# Altium schematic symbol library kmilo17pet-TI_BattMgmt.SchLib: 950 symbols (part 46 of 60)
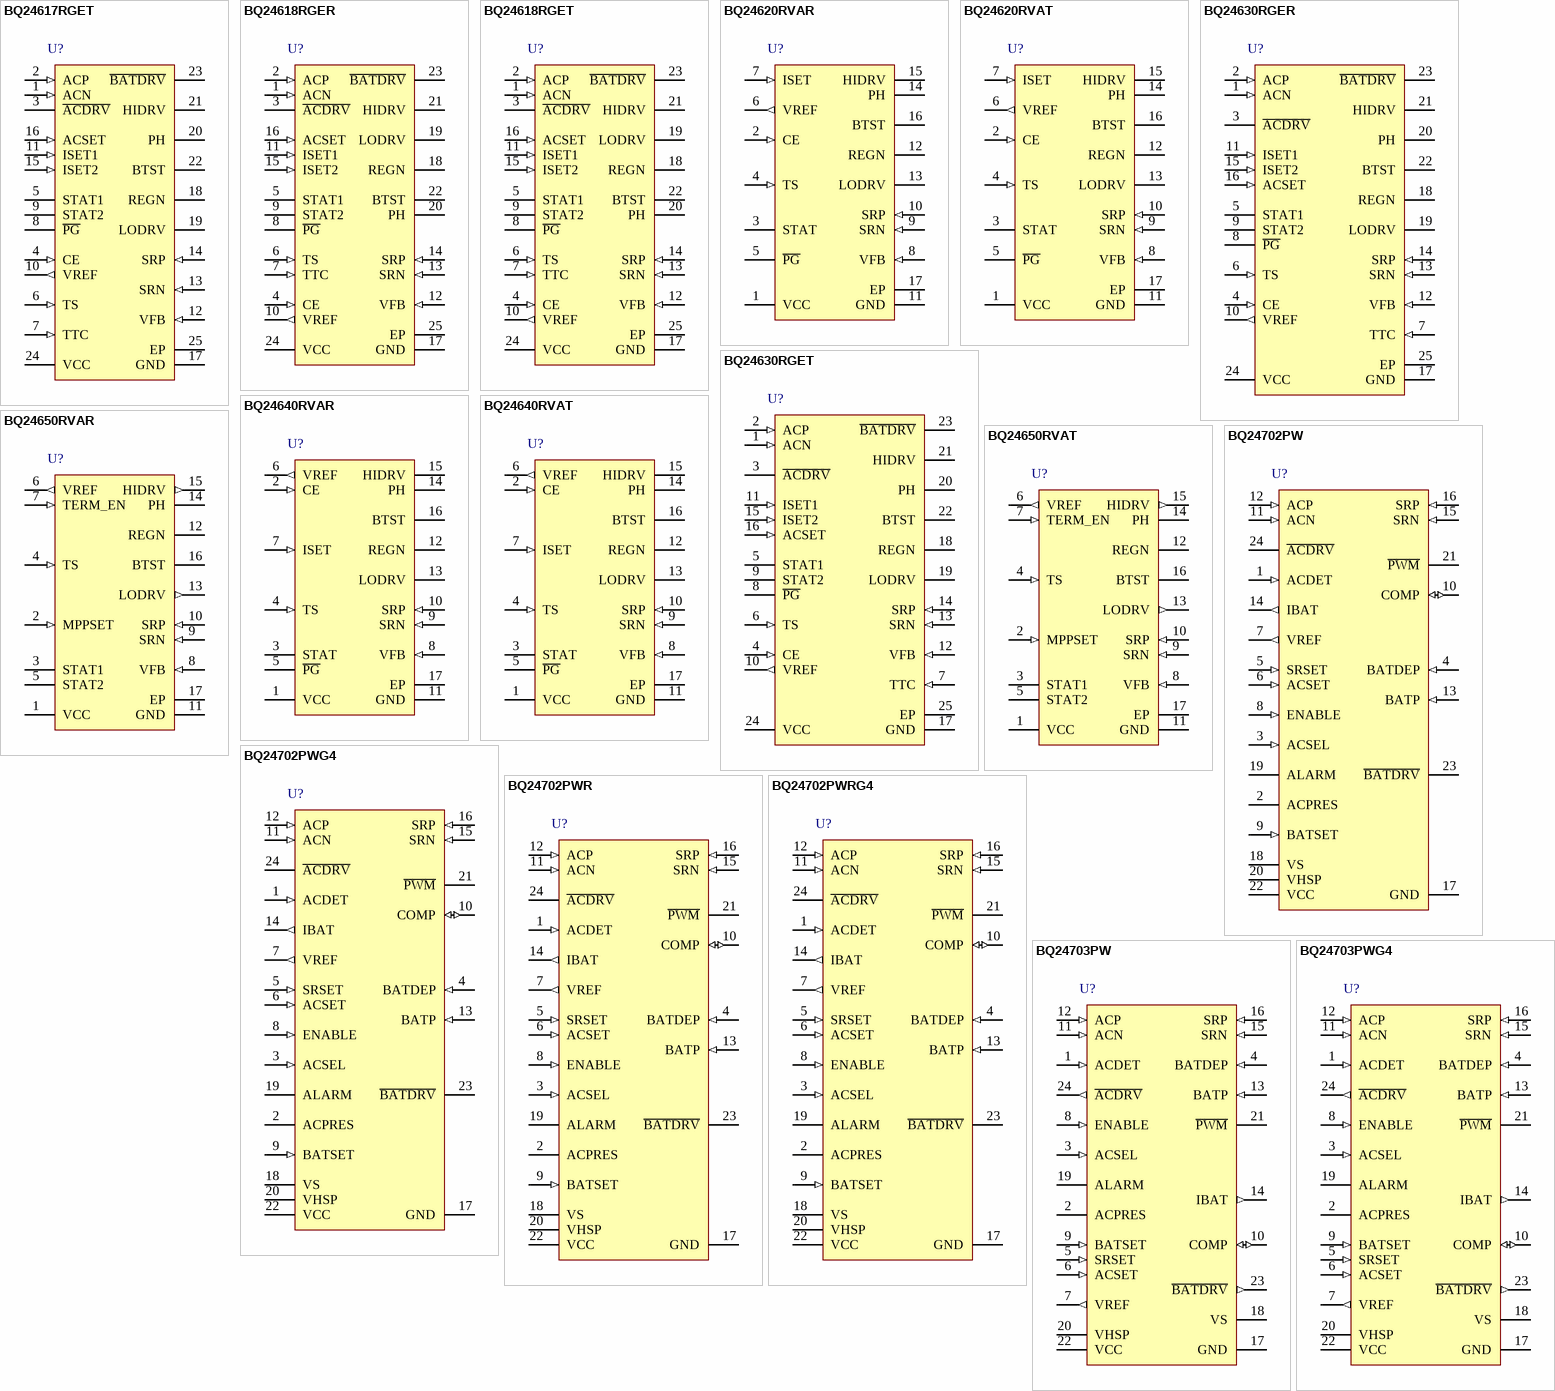
[diagram p79: symbols BQ24617RGET to BQ24703PWG4]

## BQ24620RVAR
designator U?
28 V Synchronous Switch-Mode Charge Management IC for Lithium Phosphate Batteries, 5 V, -40 to 85 degC, 16-pin VQFN (RVA), Green (RoHS & no Sb/Br); PartNumber: BQ24620RVAR; Manufacturer: Texas Instruments; Lead Acid: N; SubFamily: Battery Charge Management; Vin(Min)(V): 5; DatasheetVersion: SLUS893A; PackageVersion: revC, May-2011; PackageReference: RVA16-2140X2140TP; PackageDescription: 16-Pin Plastic Quad Flatpack No-Lead, 3.5 x 3.5 mm Body, 0.5 mm Pitch, Exposed Pad; Supplier 1: Digi-Key; Supplier Part Number 1: BQ24620RVAR-ND; Supplier Part Number 3: 595-BQ24620RVAR; Eco-Plan: Green (RoHS & no Sb/Br); Li-Ion: N; Li-Polymer: N; NiCd: N; NiMH: N; Over Voltage Protection: N; Mounting Technology: Surface Mount; ComponentLink1Description: Datasheet; ComponentLink1URL: http://www.ti.com/general/docs/lit/getliterature.tsp?genericPartNumber=BQ24620&fileType=pdf
footprint RVA16-2140X2140TP (QFN, 16-Leads, Body 3.5x3.5mm, Pitch 0.5mm, Thermal Pad 2.14x2.14mm, TI Recommended)
pins: 1 VCC (power) "IC power positive supply. Connect through a 10-ohm  resistor to the common-source (diode-OR) point: source of high-side P-channel MOSFET and source of reverse-blocking power P-channel MOSFET. Or connect through a 10-ohm (See Datasheet)", 2 CE (in) "Charge-enable active-HIGH logic input. HI enables charge. LO disables charge. It has an internal 1-M ohm  pulldown resistor.", 3 STAT (oc) "Open-drain charge status pin to indicate various charger operations (See Table 3)", 4 TS (in) "Temperature qualification voltage input for battery pack negative-temperature-coefficient thermistor. Program the hot and cold temperature window with a resistor divider from VREF to TS to GND.", 5 ~{PG} (oc) "Open-drain power-good status output. The transistor turns on when a valid VCC is detected. It is turned off in the sleep mode. P\G\  can be used to drive an LED or communicate with a host processor. It can be used to drive (See Datasheet)", 6 VREF (out) "3.3-V regulated voltage output. Place a 1-uF ceramic capacitor from VREF to the GND pin close to the IC. This voltage could be used for programming of voltage and current regulation and for programming the TS threshold", 7 ISET (in) "Charge current set input. The voltage of ISET pin programs the charge current regulation, precharge-current and termination-current set-point.", 8 VFB (in) "Output-voltage analog feedback adjustment. Connect the output of a resistive voltage divider from the battery terminals to this node to adjust the output battery regulation voltage.", 9 SRN (in) "Charge current sense resistor, negative input. A 0.1-uF ceramic capacitor is placed from SRN to SRP to provide differential-mode filtering. An optional 0.1-uF ceramic capacitor is placed from the SRN pin to GND for (See Datasheet)", 10 SRP (in) "Charge-current sense resistor, positive input. A 0.1-uF ceramic capacitor is placed from SRN to SRP to provide differential-mode filtering. A 0.1-uF ceramic capacitor is placed from SRP pin to GND for common-mode filtering.", 11 GND (power) "Low-current sensitive analog/digital ground. On PCB layout, connect with thermal pad underneath the IC.", 12 REGN (power) "PWM low-side driver positive 6-V supply output. Connect a 1-uF ceramic capacitor from REGN to the PGND pin, close to the IC. Use for low-side driver and high-side driver bootstrap voltage by connecting a small-signal (See Datasheet)", 13 LODRV "PWM low-side driver output. Connect to the gate of the low-side power MOSFET with a short trace", 14 PH (power) "PWM high-side driver negative supply. Connect to the phase-switching node (junction of the low-side power MOSFET drain, high-side power MOSFET source, and output inductor).", 15 HIDRV "PWM high-side driver output. Connect to the gate of the high-side power MOSFET with a short trace", 16 BTST (power) "PWM high-side driver negative supply. Connect the 0.1-uF bootstrap capacitor from PH to BTST, and a bootstrap Schottky diode from REGN to BTST.", 17 EP (power) "Exposed pad beneath the IC. Always solder the thermal pad to the board, and have vias on the thermal-pad plane star-connecting to GND and ground plane for high-current power converter. It also serves as a thermal pad to (See Datasheet)"

## BQ24620RVAT
designator U?
28 V Synchronous Switch-Mode Charge Management IC for Lithium Phosphate Batteries, 5 V, -40 to 85 degC, 16-pin VQFN (RVA), Green (RoHS & no Sb/Br); PartNumber: BQ24620RVAT; Manufacturer: Texas Instruments; Lead Acid: N; SubFamily: Battery Charge Management; Vin(Min)(V): 5; DatasheetVersion: SLUS893A; PackageVersion: revC, May-2011; PackageReference: RVA16-2140X2140TP; PackageDescription: 16-Pin Plastic Quad Flatpack No-Lead, 3.5 x 3.5 mm Body, 0.5 mm Pitch, Exposed Pad; Supplier 1: Digi-Key; Supplier Part Number 1: 296-27209-2-ND; Supplier Part Number 3: 296-27209-6-ND; Eco-Plan: Green (RoHS & no Sb/Br); Li-Ion: N; Li-Polymer: N; NiCd: N; NiMH: N; Over Voltage Protection: N; Mounting Technology: Surface Mount; ComponentLink1Description: Datasheet; ComponentLink1URL: http://www.ti.com/general/docs/lit/getliterature.tsp?genericPartNumber=BQ24620&fileType=pdf
footprint RVA16-2140X2140TP (QFN, 16-Leads, Body 3.5x3.5mm, Pitch 0.5mm, Thermal Pad 2.14x2.14mm, TI Recommended)
pins: 1 VCC (power) "IC power positive supply. Connect through a 10-ohm  resistor to the common-source (diode-OR) point: source of high-side P-channel MOSFET and source of reverse-blocking power P-channel MOSFET. Or connect through a 10-ohm (See Datasheet)", 2 CE (in) "Charge-enable active-HIGH logic input. HI enables charge. LO disables charge. It has an internal 1-M ohm  pulldown resistor.", 3 STAT (oc) "Open-drain charge status pin to indicate various charger operations (See Table 3)", 4 TS (in) "Temperature qualification voltage input for battery pack negative-temperature-coefficient thermistor. Program the hot and cold temperature window with a resistor divider from VREF to TS to GND.", 5 ~{PG} (oc) "Open-drain power-good status output. The transistor turns on when a valid VCC is detected. It is turned off in the sleep mode. P\G\  can be used to drive an LED or communicate with a host processor. It can be used to drive (See Datasheet)", 6 VREF (out) "3.3-V regulated voltage output. Place a 1-uF ceramic capacitor from VREF to the GND pin close to the IC. This voltage could be used for programming of voltage and current regulation and for programming the TS threshold", 7 ISET (in) "Charge current set input. The voltage of ISET pin programs the charge current regulation, precharge-current and termination-current set-point.", 8 VFB (in) "Output-voltage analog feedback adjustment. Connect the output of a resistive voltage divider from the battery terminals to this node to adjust the output battery regulation voltage.", 9 SRN (in) "Charge current sense resistor, negative input. A 0.1-uF ceramic capacitor is placed from SRN to SRP to provide differential-mode filtering. An optional 0.1-uF ceramic capacitor is placed from the SRN pin to GND for (See Datasheet)", 10 SRP (in) "Charge-current sense resistor, positive input. A 0.1-uF ceramic capacitor is placed from SRN to SRP to provide differential-mode filtering. A 0.1-uF ceramic capacitor is placed from SRP pin to GND for common-mode filtering.", 11 GND (power) "Low-current sensitive analog/digital ground. On PCB layout, connect with thermal pad underneath the IC.", 12 REGN (power) "PWM low-side driver positive 6-V supply output. Connect a 1-uF ceramic capacitor from REGN to the PGND pin, close to the IC. Use for low-side driver and high-side driver bootstrap voltage by connecting a small-signal (See Datasheet)", 13 LODRV "PWM low-side driver output. Connect to the gate of the low-side power MOSFET with a short trace", 14 PH (power) "PWM high-side driver negative supply. Connect to the phase-switching node (junction of the low-side power MOSFET drain, high-side power MOSFET source, and output inductor).", 15 HIDRV "PWM high-side driver output. Connect to the gate of the high-side power MOSFET with a short trace", 16 BTST (power) "PWM high-side driver negative supply. Connect the 0.1-uF bootstrap capacitor from PH to BTST, and a bootstrap Schottky diode from REGN to BTST.", 17 EP (power) "Exposed pad beneath the IC. Always solder the thermal pad to the board, and have vias on the thermal-pad plane star-connecting to GND and ground plane for high-current power converter. It also serves as a thermal pad to (See Datasheet)"

## BQ24630RGER
designator U?
Stand-Alone Synchronous Switch-Mode Lithium Phosphate Battery Charger with System Power Selector, 5 V, -40 to 85 degC, 24-pin VQFN (RGE), Green (RoHS & no Sb/Br); PartNumber: BQ24630RGER; Manufacturer: Texas Instruments; Lead Acid: N; SubFamily: Battery Charge Management; Vin(Min)(V): 5; DatasheetVersion: SLUS894A; PackageVersion: revG, Jul-2011; PackageReference: RGE24-2450X2450TP; PackageDescription: 24-Pin Plastic Quad Flatpack No-Lead, 4 x 4 mm Body, 0.5 mm Pitch; Supplier 1: Digi-Key; Supplier Part Number 1: BQ24630RGER-ND; Supplier Part Number 3: 595-BQ24630RGER; Eco-Plan: Green (RoHS & no Sb/Br); Li-Ion: N; Li-Polymer: N; NiCd: N; NiMH: N; Over Voltage Protection: N; Mounting Technology: Surface Mount; Code_JEDEC: MO-220; ComponentLink1Description: Datasheet; ComponentLink1URL: http://www.ti.com/general/docs/lit/getliterature.tsp?genericPartNumber=BQ24630&fileType=pdf
footprint RGE24-2450X2450TP (QFN, 24-Leads, Body 4x4mm, Pitch 0.5mm, Thermal Pad 2.45x2.45mm, TI Recommended)
pins: 1 ACN (in) "Adapter current-sense resistor, negative input. A 0.1-uF ceramic capacitor is placed from ACN to ACP to provide differential-mode filtering. An optional 0.1-uF ceramic capacitor is placed from the ACN pin to GND for (See Datasheet)", 2 ACP (in) "Adapter current-sense resistor, positive input. A 0.1-uF ceramic capacitor is placed from ACN to ACP to provide differential-mode filtering. A 0.1-uF ceramic capacitor is placed from the ACP pin to GND for common-mode (See Datasheet)", 3 ~{ACDRV} "AC adapter to system MOSFET driver output. Connect through a 1-kohm resistor to the gate of the ACFET P-channel power MOSFET and the reverse conduction blocking P-channel power MOSFET. The internal gate drive is (See Datasheet)", 4 CE (in) "Charge-enable active-HIGH logic input. HI enables charge. LO disables charge. It has an internal 1-Mohm pulldown resistor.", 5 STAT1 (oc) "Open-drain charge-status pin to indicate various charger operations", 6 TS (in) "Temperature qualification voltage input for battery-pack negative-temperature-coefficient thermistor. Program the hot and cold temperature window with a resistor divider from VREF to TS to GND.", 7 TTC (in) "SafetyTimer and termination control. Connect a capacitor from this node to GND to set the timer. When this input is LOW, the timer and termination are disabled. When this input is HIGH, the timer is disabled but termination (See Datasheet)", 8 ~{PG} (oc) "Open-drain power-good status output. Active-LOW when IC has a valid VCC (not in UVLO or ACOV or SLEEP mode). Active-HIGH when IC has an invalid VCC. P\G\  can be used to drive an LED or communicate with a host processor", 9 STAT2 (oc) "Open-drain charge-status pin to indicate various charger operations", 10 VREF (out) "3.3-V regulated voltage output. Place a 1-uF ceramic capacitor from VREF to GND pin close to the IC. This voltage could be used for programming of voltage and current regulation and for programming the TS threshold.", 11 ISET1 (in) "Fast-charge current-set input. The voltage on the ISET1 pin programs the fast-charge current-regulation set point.", 12 VFB (in) "Output-voltage analog-feedback adjustment. Connect the output of a resistive voltage divider from the battery terminals to this node to adjust the output battery-regulation voltage.", 13 SRN (in) "Charge-current sense resistor, negative input. A 0.1-uF ceramic capacitor is placed from SRN to SRP to provide differential-mode filtering. An optional 0.1-uF ceramic capacitor is placed from the SRN pin to GND for (See Datasheet)", 14 SRP (in) "Charge-current sense resistor, positive input. A 0.1-uF ceramic capacitor is placed from SRN to SRP to provide differential-mode filtering. A 0.1-uF ceramic capacitor is placed from the SRP pin to GND for common-mode (See Datasheet)", 15 ISET2 (in) "Pre-charge and termination current-set input. The voltage on the ISET2 pin programs the pre-charge current regulation set-point and termination-current trigger point.", 16 ACSET (in) "Adapter-current set input. The voltage on the ACSET pin programs the input-current regulation set-point during dynamic power management (DPM).", 17 GND (power) "Low-current sensitive analog/digital ground. On PCB layout, connect with thermal pad underneath the IC.", 18 REGN (power) "PWM low-side driver positive 6-V supply output. Connect a 1-uF ceramic capacitor from REGN to the GND pin, close to the IC. Use for low-side driver and high-side driver bootstrap voltage by connecting a small-signal Schottky (See Datasheet)", 19 LODRV "PWM low-side driver output. Connect to the gate of the low-side power MOSFET with a short trace.", 20 PH (power) "PWM high-side driver negative supply. Connect to the phase-switching node (junction of the low-side power MOSFET drain, high-side power MOSFET source, and output inductor).", 21 HIDRV "PWM high-side driver output. Connect to the gate of the high-side power MOSFET with a short trace.", 22 BTST (power) "PWM high-side driver positive supply. Connect to the phase-switching node (junction of the low-side power MOSFET drain, high-side power MOSFET source, and output inductor). Connect the 0.1-uF bootstrap capacitor from PH to (See Datasheet)", 23 ~{BATDRV} "Battery-to-system MOSFET driver output. Gate drive for the battery-to-system load BAT PMOS power FET to isolate the system from the battery to prevent current flow from the system to the battery, while allowing a (See Datasheet)", 24 VCC (power) "IC power positive supply. Connect through a 10-ohm to the common-source (diode-OR) point: source of high-side P-channel MOSFET and source of reverse-blocking power P-channel MOSFET. Place a 1-µF ceramic capacitor from VCC to (See Datasheet)", 25 EP (power) "Exposed pad beneath the IC. Always solder the thermal pad to the board, and have vias on the thermal-pad plane star-connecting to GND and to the ground plane for a high-current power converter. It also serves as a thermal (See Datasheet)"

## BQ24630RGET
designator U?
Stand-Alone Synchronous Switch-Mode Lithium Phosphate Battery Charger with System Power Selector, 5 V, -40 to 85 degC, 24-pin VQFN (RGE), Green (RoHS & no Sb/Br); PartNumber: BQ24630RGET; Manufacturer: Texas Instruments; Lead Acid: N; SubFamily: Battery Charge Management; Vin(Min)(V): 5; DatasheetVersion: SLUS894A; PackageVersion: revG, Jul-2011; PackageReference: RGE24-2450X2450TP; PackageDescription: 24-Pin Plastic Quad Flatpack No-Lead, 4 x 4 mm Body, 0.5 mm Pitch; Supplier 1: Digi-Key; Supplier Part Number 1: 296-25761-2-ND; Supplier Part Number 3: 296-25761-6-ND; Eco-Plan: Green (RoHS & no Sb/Br); Li-Ion: N; Li-Polymer: N; NiCd: N; NiMH: N; Over Voltage Protection: N; Mounting Technology: Surface Mount; Code_JEDEC: MO-220; ComponentLink1Description: Datasheet; ComponentLink1URL: http://www.ti.com/general/docs/lit/getliterature.tsp?genericPartNumber=BQ24630&fileType=pdf
footprint RGE24-2450X2450TP (QFN, 24-Leads, Body 4x4mm, Pitch 0.5mm, Thermal Pad 2.45x2.45mm, TI Recommended)
pins: 1 ACN (in) "Adapter current-sense resistor, negative input. A 0.1-uF ceramic capacitor is placed from ACN to ACP to provide differential-mode filtering. An optional 0.1-uF ceramic capacitor is placed from the ACN pin to GND for (See Datasheet)", 2 ACP (in) "Adapter current-sense resistor, positive input. A 0.1-uF ceramic capacitor is placed from ACN to ACP to provide differential-mode filtering. A 0.1-uF ceramic capacitor is placed from the ACP pin to GND for common-mode (See Datasheet)", 3 ~{ACDRV} "AC adapter to system MOSFET driver output. Connect through a 1-kohm resistor to the gate of the ACFET P-channel power MOSFET and the reverse conduction blocking P-channel power MOSFET. The internal gate drive is (See Datasheet)", 4 CE (in) "Charge-enable active-HIGH logic input. HI enables charge. LO disables charge. It has an internal 1-Mohm pulldown resistor.", 5 STAT1 (oc) "Open-drain charge-status pin to indicate various charger operations", 6 TS (in) "Temperature qualification voltage input for battery-pack negative-temperature-coefficient thermistor. Program the hot and cold temperature window with a resistor divider from VREF to TS to GND.", 7 TTC (in) "SafetyTimer and termination control. Connect a capacitor from this node to GND to set the timer. When this input is LOW, the timer and termination are disabled. When this input is HIGH, the timer is disabled but termination (See Datasheet)", 8 ~{PG} (oc) "Open-drain power-good status output. Active-LOW when IC has a valid VCC (not in UVLO or ACOV or SLEEP mode). Active-HIGH when IC has an invalid VCC. P\G\  can be used to drive an LED or communicate with a host processor", 9 STAT2 (oc) "Open-drain charge-status pin to indicate various charger operations", 10 VREF (out) "3.3-V regulated voltage output. Place a 1-uF ceramic capacitor from VREF to GND pin close to the IC. This voltage could be used for programming of voltage and current regulation and for programming the TS threshold.", 11 ISET1 (in) "Fast-charge current-set input. The voltage on the ISET1 pin programs the fast-charge current-regulation set point.", 12 VFB (in) "Output-voltage analog-feedback adjustment. Connect the output of a resistive voltage divider from the battery terminals to this node to adjust the output battery-regulation voltage.", 13 SRN (in) "Charge-current sense resistor, negative input. A 0.1-uF ceramic capacitor is placed from SRN to SRP to provide differential-mode filtering. An optional 0.1-uF ceramic capacitor is placed from the SRN pin to GND for (See Datasheet)", 14 SRP (in) "Charge-current sense resistor, positive input. A 0.1-uF ceramic capacitor is placed from SRN to SRP to provide differential-mode filtering. A 0.1-uF ceramic capacitor is placed from the SRP pin to GND for common-mode (See Datasheet)", 15 ISET2 (in) "Pre-charge and termination current-set input. The voltage on the ISET2 pin programs the pre-charge current regulation set-point and termination-current trigger point.", 16 ACSET (in) "Adapter-current set input. The voltage on the ACSET pin programs the input-current regulation set-point during dynamic power management (DPM).", 17 GND (power) "Low-current sensitive analog/digital ground. On PCB layout, connect with thermal pad underneath the IC.", 18 REGN (power) "PWM low-side driver positive 6-V supply output. Connect a 1-uF ceramic capacitor from REGN to the GND pin, close to the IC. Use for low-side driver and high-side driver bootstrap voltage by connecting a small-signal Schottky (See Datasheet)", 19 LODRV "PWM low-side driver output. Connect to the gate of the low-side power MOSFET with a short trace.", 20 PH (power) "PWM high-side driver negative supply. Connect to the phase-switching node (junction of the low-side power MOSFET drain, high-side power MOSFET source, and output inductor).", 21 HIDRV "PWM high-side driver output. Connect to the gate of the high-side power MOSFET with a short trace.", 22 BTST (power) "PWM high-side driver positive supply. Connect to the phase-switching node (junction of the low-side power MOSFET drain, high-side power MOSFET source, and output inductor). Connect the 0.1-uF bootstrap capacitor from PH to (See Datasheet)", 23 ~{BATDRV} "Battery-to-system MOSFET driver output. Gate drive for the battery-to-system load BAT PMOS power FET to isolate the system from the battery to prevent current flow from the system to the battery, while allowing a (See Datasheet)", 24 VCC (power) "IC power positive supply. Connect through a 10-ohm to the common-source (diode-OR) point: source of high-side P-channel MOSFET and source of reverse-blocking power P-channel MOSFET. Place a 1-µF ceramic capacitor from VCC to (See Datasheet)", 25 EP (power) "Exposed pad beneath the IC. Always solder the thermal pad to the board, and have vias on the thermal-pad plane star-connecting to GND and to the ground plane for a high-current power converter. It also serves as a thermal (See Datasheet)"

## BQ24640RVAR
designator U?
High Efficiency Synchronous Switch-Mode Battery Charge Controller for Super Capacitor, 5 V, -40 to 85 degC, 16-pin VQFN (RVA), Green (RoHS & no Sb/Br); PartNumber: BQ24640RVAR; Manufacturer: Texas Instruments; Lead Acid: N; SubFamily: Battery Charge Management; Vin(Min)(V): 5; DatasheetVersion: SLUSA44; PackageVersion: revC, May-2011; PackageReference: RVA16-2140X2140TP; PackageDescription: 16-Pin Plastic Quad Flatpack No-Lead, 3.5 x 3.5 mm Body, 0.5 mm Pitch, Exposed Pad; Supplier 1: Digi-Key; Supplier Part Number 1: 296-27258-2-ND; Supplier Part Number 3: 296-27258-6-ND; Eco-Plan: Green (RoHS & no Sb/Br); Li-Ion: N; Li-Polymer: N; NiCd: N; NiMH: N; Over Voltage Protection: N; Mounting Technology: Surface Mount; ComponentLink1Description: Datasheet; ComponentLink1URL: http://www.ti.com/general/docs/lit/getliterature.tsp?genericPartNumber=BQ24640&fileType=pdf
footprint RVA16-2140X2140TP (QFN, 16-Leads, Body 3.5x3.5mm, Pitch 0.5mm, Thermal Pad 2.14x2.14mm, TI Recommended)
pins: 1 VCC (power) "IC power positive supply. Connect through a 10-ohm resistor to the cathode of input diode. Place a 1-uF ceramic capacitor from VCC to GND and place it as close as possible to IC to filter out the noise.", 2 CE (in) "Charge enable, active HIGH logic input. HI enables charge, and LO disables charge. Connect to pull-up rail with 10-kohm resistor. It has an internal 1-Mohm pull-down resistor.", 3 STAT (oc) "Open drain charge status output to indicate various charger operation. Connect to the pull-up rail through the LED and 10-kohm. (See Table 3)", 4 TS (in) "Temperature qualification voltage input for negative temperature coefficient thermistor. Program the hot and cold temperature window with a resistor divider from VREF to TS to GND. Recommend SEMITEC 103AT-2 10-kohm (See Datasheet)", 5 ~{PG} (oc) "Open drain active-low adapter status output. Connect to pull-up rail through LED and 10 kohm resistor. The LED turns on when a valid is detected, and off in the sleep mode.", 6 VREF (out) "3.3V reference voltage output. Place a 1-uF ceramic capacitor from VREF to GND pin close to the IC. This voltage could be used for programming charge current regulation on ISET and for thermal threshold on TS. It can be used (See Datasheet)", 7 ISET (in) "Charge current set point. The voltage is set through a voltage divider from VREF to ISET and to GND.ICHG=VISET/(20*RSR)", 8 VFB (in) "Charge voltage analog feedback adjustment. Connect a resistor divider from output to VFB to GND to adjust the output voltage. The internal regulation limit is 2.1V.", 9 SRN (in) "Charge current sense resistor, negative input. A 0.1-uF ceramic capacitor is placed from SRN to SRP to provide differential-mode filtering. An optional 0.1-uF ceramic capacitor is placed from SRN pin to GND for common-mode (See Datasheet)", 10 SRP (in) "Charge current sense resistor, positive input. A 0.1-uF ceramic capacitor is placed from SRN to SRP to provide differential-mode filtering. A 0.1-uF ceramic capacitor is placed from SRP pin to GND for common-mode filtering.", 11 GND (power) "Low-current sensitive analog/digital ground. On PCB layout, connect with PowerPad underneath the IC", 12 REGN (power) "PWM low side driver positive 6V supply output. Connect a 1-uF ceramic capacitor from REGN to GND pin close to the IC. Use for low side driver and high-side driver bootstrap voltage by small signal Schottky diode from REGN to (See Datasheet)", 13 LODRV "PWM low side driver output. Connect to the gate of the low side N-channel power MOSFET with a short trace.", 14 PH (power) "Switching node, charge current output inductor connection. Connect the 0.1-uF bootstrap capacitor from PH to BTST.", 15 HIDRV "PWM high side driver output. Connect to the gate of the high side N-channel power MOSFET with a short trace.", 16 BTST (power) "PWM high side driver positive supply. Connect the 0.1-uF bootstrap capacitor from PH to BTST.", 17 EP (power) "Exposed pad beneath the IC. Always solder Power Pad to the board, and have vias on the Power Pad plane star-connecting to GND and ground plane for high-current power converter. It also serves as a thermal pad to dissipate (See Datasheet)"

## BQ24640RVAT
designator U?
High Efficiency Synchronous Switch-Mode Battery Charge Controller for Super Capacitor, 5 V, -40 to 85 degC, 16-pin VQFN (RVA), Green (RoHS & no Sb/Br); PartNumber: BQ24640RVAT; Manufacturer: Texas Instruments; Lead Acid: N; SubFamily: Battery Charge Management; Vin(Min)(V): 5; DatasheetVersion: SLUSA44; PackageVersion: revC, May-2011; PackageReference: RVA16-2140X2140TP; PackageDescription: 16-Pin Plastic Quad Flatpack No-Lead, 3.5 x 3.5 mm Body, 0.5 mm Pitch, Exposed Pad; Supplier 1: Digi-Key; Supplier Part Number 1: 296-32032-2-ND; Supplier Part Number 3: 296-32032-6-ND; Eco-Plan: Green (RoHS & no Sb/Br); Li-Ion: N; Li-Polymer: N; NiCd: N; NiMH: N; Over Voltage Protection: N; Mounting Technology: Surface Mount; ComponentLink1Description: Datasheet; ComponentLink1URL: http://www.ti.com/general/docs/lit/getliterature.tsp?genericPartNumber=BQ24640&fileType=pdf
footprint RVA16-2140X2140TP (QFN, 16-Leads, Body 3.5x3.5mm, Pitch 0.5mm, Thermal Pad 2.14x2.14mm, TI Recommended)
pins: 1 VCC (power) "IC power positive supply. Connect through a 10-ohm resistor to the cathode of input diode. Place a 1-uF ceramic capacitor from VCC to GND and place it as close as possible to IC to filter out the noise.", 2 CE (in) "Charge enable, active HIGH logic input. HI enables charge, and LO disables charge. Connect to pull-up rail with 10-kohm resistor. It has an internal 1-Mohm pull-down resistor.", 3 STAT (oc) "Open drain charge status output to indicate various charger operation. Connect to the pull-up rail through the LED and 10-kohm. (See Table 3)", 4 TS (in) "Temperature qualification voltage input for negative temperature coefficient thermistor. Program the hot and cold temperature window with a resistor divider from VREF to TS to GND. Recommend SEMITEC 103AT-2 10-kohm (See Datasheet)", 5 ~{PG} (oc) "Open drain active-low adapter status output. Connect to pull-up rail through LED and 10 kohm resistor. The LED turns on when a valid is detected, and off in the sleep mode.", 6 VREF (out) "3.3V reference voltage output. Place a 1-uF ceramic capacitor from VREF to GND pin close to the IC. This voltage could be used for programming charge current regulation on ISET and for thermal threshold on TS. It can be used (See Datasheet)", 7 ISET (in) "Charge current set point. The voltage is set through a voltage divider from VREF to ISET and to GND.ICHG=VISET/(20*RSR)", 8 VFB (in) "Charge voltage analog feedback adjustment. Connect a resistor divider from output to VFB to GND to adjust the output voltage. The internal regulation limit is 2.1V.", 9 SRN (in) "Charge current sense resistor, negative input. A 0.1-uF ceramic capacitor is placed from SRN to SRP to provide differential-mode filtering. An optional 0.1-uF ceramic capacitor is placed from SRN pin to GND for common-mode (See Datasheet)", 10 SRP (in) "Charge current sense resistor, positive input. A 0.1-uF ceramic capacitor is placed from SRN to SRP to provide differential-mode filtering. A 0.1-uF ceramic capacitor is placed from SRP pin to GND for common-mode filtering.", 11 GND (power) "Low-current sensitive analog/digital ground. On PCB layout, connect with PowerPad underneath the IC", 12 REGN (power) "PWM low side driver positive 6V supply output. Connect a 1-uF ceramic capacitor from REGN to GND pin close to the IC. Use for low side driver and high-side driver bootstrap voltage by small signal Schottky diode from REGN to (See Datasheet)", 13 LODRV "PWM low side driver output. Connect to the gate of the low side N-channel power MOSFET with a short trace.", 14 PH (power) "Switching node, charge current output inductor connection. Connect the 0.1-uF bootstrap capacitor from PH to BTST.", 15 HIDRV "PWM high side driver output. Connect to the gate of the high side N-channel power MOSFET with a short trace.", 16 BTST (power) "PWM high side driver positive supply. Connect the 0.1-uF bootstrap capacitor from PH to BTST.", 17 EP (power) "Exposed pad beneath the IC. Always solder Power Pad to the board, and have vias on the Power Pad plane star-connecting to GND and ground plane for high-current power converter. It also serves as a thermal pad to dissipate (See Datasheet)"

## BQ24650RVAR
designator U?
High Efficiency Synchronous Switch-Mode Charger Controller- Solar Battery Charger, 5 V, -40 to 85 degC, 16-pin VQFN (RVA), Green (RoHS & no Sb/Br); PartNumber: BQ24650RVAR; Manufacturer: Texas Instruments; Lead Acid: N; SubFamily: Battery Charge Management; Vin(Min)(V): 5; DatasheetVersion: SLUSA75; PackageVersion: revC, May-2011; PackageReference: RVA16-2140X2140TP; PackageDescription: 16-Pin Plastic Quad Flatpack No-Lead, 3.5 x 3.5 mm Body, 0.5 mm Pitch, Exposed Pad; Supplier 1: Digi-Key; Supplier Part Number 1: BQ24650RVAR-ND; Supplier Part Number 3: 595-BQ24650RVAR; Eco-Plan: Green (RoHS & no Sb/Br); Li-Ion: N; Li-Polymer: N; NiCd: N; NiMH: N; Over Voltage Protection: N; Mounting Technology: Surface Mount; ComponentLink1Description: Datasheet; ComponentLink1URL: http://www.ti.com/general/docs/lit/getliterature.tsp?genericPartNumber=BQ24650&fileType=pdf
footprint RVA16-2140X2140TP (QFN, 16-Leads, Body 3.5x3.5mm, Pitch 0.5mm, Thermal Pad 2.14x2.14mm, TI Recommended)
pins: 1 VCC (power) "IC power positive supply. Place a 1-uF ceramic capacitor from VCC to GND and place it as close as possible to IC. Place a 10-ohm resistor from input side to VCC pin to filter the noise.", 2 MPPSET (in) "Input voltage set point. Use a voltage divider from input source to GND to set voltage on MPPSET to 1.2V. To disable charge, pull MPPSET below 75mV.", 3 STAT1 (oc) "Open drain charge status output to indicate various charger operation. Connect to the cathode of LED with 10kohm to the pull-up rail. LOW or LED light up indicates charge in progress. Otherwise stays HI or LED stays off. (See Datasheet)", 4 TS (in) "Temperature qualification voltage input. Connect to a negative temperature coefficient thermistor. Program the hot and cold temperature window with a resistor divider from VREF to TS to GND. A 103AT-2 thermister is (See Datasheet)", 5 STAT2 (oc) "Open drain charge status output to indicate various charger operation. Connect to the cathode of LED with 10kohm to the pull-up rail. LOW or LED light up indicates charge is complete. Otherwise, stays HI or LED stays off. (See Datasheet)", 6 VREF (out) "3.3V reference voltage output. Place a 1-uF ceramic capacitor from VREF to GND pin close to the IC. This voltage could be used for programming voltage on TS and the pull-up rail of STAT1 and STAT2.", 7 TERM_EN (in) "Charge termination enable. Pull TERM_EN to GND to disable charge termination. Pull TERM_EN to VREF to allow charge termination. TERM_EN must be terminated and cannot be left floating.", 8 VFB (in) "Charge voltage analog feedback adjustment. Connect the output of a resistor divider powered from the battery terminals to this node to adjust the output battery voltage regulation.", 9 SRN (in) "Charge current sense resistor, negative input. A 0.1-uF ceramic capacitor is placed from SRN to SRP to provide differential-mode filtering. An optional 0.1-uF ceramic capacitor is placed from SRN to GND for common-mode (See Datasheet)", 10 SRP (in) "Charge current sense resistor, positive input. A 0.1-uF ceramic capacitor is placed from SRN to SRP to provide differential-mode filtering. A 0.1-uF ceramic capacitor is placed from SRP to GND for common-mode filtering.", 11 GND (power) "Power ground. Ground connection for high-current power converter node. On PCB layout, connect directly to source of low-side power MOSFET, to ground connection of input and output capacitors of the charger. Only connect to (See Datasheet)", 12 REGN (power) "PWM low-side driver positive 6V supply output. Connect a 1-uF ceramic capacitor from REGN to GND, close to the IC. Use to drive low-side driver and high-side driver bootstrap Schottky diode from REGN to BTST.", 13 LODRV (out) "PWM low-side driver output. Connect to the gate of the low-side N-channel power MOSFET with a short trace.", 14 PH "Switching node, charge current output inductor connection. Connect the 0.1-uF bootstrap capacitor from PH to BTST.", 15 HIDRV (out) "PWM high-side driver output. Connect to the gate of the high-side N-channel power MOSFET with a short trace.", 16 BTST (power) "PWM high-side driver positive supply. Connect the 0.1-uF bootstrap capacitor from PH to BTST.", 17 EP (power) "Exposed pad beneath the IC. The thermal pad must always be soldered to the board and have the vias on the thermal pad plane star-connecting to GND and ground plane for high-current power converter. It also serves as a (See Datasheet)"

## BQ24650RVAT
designator U?
High Efficiency Synchronous Switch-Mode Charger Controller- Solar Battery Charger, 5 V, -40 to 85 degC, 16-pin VQFN (RVA), Green (RoHS & no Sb/Br); PartNumber: BQ24650RVAT; Manufacturer: Texas Instruments; Lead Acid: N; SubFamily: Battery Charge Management; Vin(Min)(V): 5; DatasheetVersion: SLUSA75; PackageVersion: revC, May-2011; PackageReference: RVA16-2140X2140TP; PackageDescription: 16-Pin Plastic Quad Flatpack No-Lead, 3.5 x 3.5 mm Body, 0.5 mm Pitch, Exposed Pad; Supplier 1: Digi-Key; Supplier Part Number 1: 296-27699-2-ND; Supplier Part Number 3: 296-27699-6-ND; Eco-Plan: Green (RoHS & no Sb/Br); Li-Ion: N; Li-Polymer: N; NiCd: N; NiMH: N; Over Voltage Protection: N; Mounting Technology: Surface Mount; ComponentLink1Description: Datasheet; ComponentLink1URL: http://www.ti.com/general/docs/lit/getliterature.tsp?genericPartNumber=BQ24650&fileType=pdf
footprint RVA16-2140X2140TP (QFN, 16-Leads, Body 3.5x3.5mm, Pitch 0.5mm, Thermal Pad 2.14x2.14mm, TI Recommended)
pins: 1 VCC (power) "IC power positive supply. Place a 1-uF ceramic capacitor from VCC to GND and place it as close as possible to IC. Place a 10-ohm resistor from input side to VCC pin to filter the noise.", 2 MPPSET (in) "Input voltage set point. Use a voltage divider from input source to GND to set voltage on MPPSET to 1.2V. To disable charge, pull MPPSET below 75mV.", 3 STAT1 (oc) "Open drain charge status output to indicate various charger operation. Connect to the cathode of LED with 10kohm to the pull-up rail. LOW or LED light up indicates charge in progress. Otherwise stays HI or LED stays off. (See Datasheet)", 4 TS (in) "Temperature qualification voltage input. Connect to a negative temperature coefficient thermistor. Program the hot and cold temperature window with a resistor divider from VREF to TS to GND. A 103AT-2 thermister is (See Datasheet)", 5 STAT2 (oc) "Open drain charge status output to indicate various charger operation. Connect to the cathode of LED with 10kohm to the pull-up rail. LOW or LED light up indicates charge is complete. Otherwise, stays HI or LED stays off. (See Datasheet)", 6 VREF (out) "3.3V reference voltage output. Place a 1-uF ceramic capacitor from VREF to GND pin close to the IC. This voltage could be used for programming voltage on TS and the pull-up rail of STAT1 and STAT2.", 7 TERM_EN (in) "Charge termination enable. Pull TERM_EN to GND to disable charge termination. Pull TERM_EN to VREF to allow charge termination. TERM_EN must be terminated and cannot be left floating.", 8 VFB (in) "Charge voltage analog feedback adjustment. Connect the output of a resistor divider powered from the battery terminals to this node to adjust the output battery voltage regulation.", 9 SRN (in) "Charge current sense resistor, negative input. A 0.1-uF ceramic capacitor is placed from SRN to SRP to provide differential-mode filtering. An optional 0.1-uF ceramic capacitor is placed from SRN to GND for common-mode (See Datasheet)", 10 SRP (in) "Charge current sense resistor, positive input. A 0.1-uF ceramic capacitor is placed from SRN to SRP to provide differential-mode filtering. A 0.1-uF ceramic capacitor is placed from SRP to GND for common-mode filtering.", 11 GND (power) "Power ground. Ground connection for high-current power converter node. On PCB layout, connect directly to source of low-side power MOSFET, to ground connection of input and output capacitors of the charger. Only connect to (See Datasheet)", 12 REGN (power) "PWM low-side driver positive 6V supply output. Connect a 1-uF ceramic capacitor from REGN to GND, close to the IC. Use to drive low-side driver and high-side driver bootstrap Schottky diode from REGN to BTST.", 13 LODRV (out) "PWM low-side driver output. Connect to the gate of the low-side N-channel power MOSFET with a short trace.", 14 PH "Switching node, charge current output inductor connection. Connect the 0.1-uF bootstrap capacitor from PH to BTST.", 15 HIDRV (out) "PWM high-side driver output. Connect to the gate of the high-side N-channel power MOSFET with a short trace.", 16 BTST (power) "PWM high-side driver positive supply. Connect the 0.1-uF bootstrap capacitor from PH to BTST.", 17 EP (power) "Exposed pad beneath the IC. The thermal pad must always be soldered to the board and have the vias on the thermal pad plane star-connecting to GND and ground plane for high-current power converter. It also serves as a (See Datasheet)"

## BQ24702PW
designator U?
Multi-Chemistry Battery Charge Controller and System Power Selector, 7 V, -40 to 125 degC, 24-pin TSSOP (PW), Green (RoHS & no Sb/Br); PartNumber: BQ24702PW; Manufacturer: Texas Instruments; Lead Acid: Y; Over Voltage Protection: N; SubFamily: Battery Charge Management; Vin(Min)(V): 7; DatasheetVersion: SLUS553E; PackageVersion: revG, Feb-2011; PackageReference: PW24; PackageDescription: 24-Pin Thin Small Outline Package 0.65 mm Pitch; Supplier 1: Digi-Key; Supplier Part Number 1: 296-15264-5-ND; Supplier Part Number 3: 595-BQ24702PW; Eco-Plan: Green (RoHS & no Sb/Br); Li-Ion: Y; Li-Polymer: Y; NiCd: Y; NiMH: Y; Mounting Technology: Surface Mount; Code_JEDEC: MO-153; ComponentLink1Description: Datasheet; ComponentLink1URL: http://www.ti.com/general/docs/lit/getliterature.tsp?genericPartNumber=BQ24702&fileType=pdf
footprint PW24_N (TSOP, 24-Leads, Body 7.8x4.4mm, Pitch 0.65mm, IPC Medium Density)
footprint PW24_L (TSOP, 24-Leads, Body 7.8x4.4mm, Pitch 0.65mm, IPC High Density)
footprint PW24_M (TSOP, 24-Leads, Body 7.8x4.4mm, Pitch 0.65mm, IPC Low Density)
pins: 1 ACDET (in) "AC or adapter power detection", 2 ACPRES (oc) "AC power indicator", 3 ACSEL (in) "AC adapter power select", 4 BATDEP (in) "Depleted battery level", 5 SRSET (in) "Battery charge current programming voltage", 6 ACSET (in) "Adapter current programming voltage", 7 VREF (out) "Precision 5-V reference", 8 ENABLE (in) "Charge enable", 9 BATSET (in) "External override to an internal precision reference", 10 COMP (io) "Inverting input to the PWM comparator", 11 ACN (in) "Negative differential input", 12 ACP (in) "Positive differential input", 13 BATP (in) "Battery charge regulation voltage measurement input to the battery-voltage gm amplifier", 14 IBAT (out) "Battery current differential amplifier output", 15 SRN (in) "Negative differential battery current sense amplifier input", 16 SRP (in) "Positive differential battery current sense amplifier input", 17 GND (power) "Supply return and ground reference", 18 VS (power) "System (load) voltage input pin", 19 ALARM (oc) "Alarm output", 20 VHSP (power) "Voltage source to drive gates of the external MOSFETs", 21 ~{PWM} "Gate drive output", 22 VCC (power) "Operational supply voltage", 23 ~{BATDRV} "Battery power source select output", 24 ~{ACDRV} "AC or adapter power source selection output"

## BQ24702PWG4
designator U?
Multi-Chemistry Battery Charge Controller and System Power Selector, 7 V, -40 to 125 degC, 24-pin TSSOP (PW), Green (RoHS & no Sb/Br); PartNumber: BQ24702PWG4; Manufacturer: Texas Instruments; Lead Acid: Y; Over Voltage Protection: N; SubFamily: Battery Charge Management; Vin(Min)(V): 7; DatasheetVersion: SLUS553E; PackageVersion: revG, Feb-2011; PackageReference: PW24; PackageDescription: 24-Pin Thin Small Outline Package 0.65 mm Pitch; Supplier 1: Digi-Key; Supplier Part Number 1: BQ24702PWG4-ND; Supplier Part Number 3: 53K9247; Eco-Plan: Green (RoHS & no Sb/Br); Li-Ion: Y; Li-Polymer: Y; NiCd: Y; NiMH: Y; Mounting Technology: Surface Mount; Code_JEDEC: MO-153; ComponentLink1Description: Datasheet; ComponentLink1URL: http://www.ti.com/general/docs/lit/getliterature.tsp?genericPartNumber=BQ24702&fileType=pdf
footprint PW24_N (TSOP, 24-Leads, Body 7.8x4.4mm, Pitch 0.65mm, IPC Medium Density)
footprint PW24_L (TSOP, 24-Leads, Body 7.8x4.4mm, Pitch 0.65mm, IPC High Density)
footprint PW24_M (TSOP, 24-Leads, Body 7.8x4.4mm, Pitch 0.65mm, IPC Low Density)
pins: 1 ACDET (in) "AC or adapter power detection", 2 ACPRES (oc) "AC power indicator", 3 ACSEL (in) "AC adapter power select", 4 BATDEP (in) "Depleted battery level", 5 SRSET (in) "Battery charge current programming voltage", 6 ACSET (in) "Adapter current programming voltage", 7 VREF (out) "Precision 5-V reference", 8 ENABLE (in) "Charge enable", 9 BATSET (in) "External override to an internal precision reference", 10 COMP (io) "Inverting input to the PWM comparator", 11 ACN (in) "Negative differential input", 12 ACP (in) "Positive differential input", 13 BATP (in) "Battery charge regulation voltage measurement input to the battery-voltage gm amplifier", 14 IBAT (out) "Battery current differential amplifier output", 15 SRN (in) "Negative differential battery current sense amplifier input", 16 SRP (in) "Positive differential battery current sense amplifier input", 17 GND (power) "Supply return and ground reference", 18 VS (power) "System (load) voltage input pin", 19 ALARM (oc) "Alarm output", 20 VHSP (power) "Voltage source to drive gates of the external MOSFETs", 21 ~{PWM} "Gate drive output", 22 VCC (power) "Operational supply voltage", 23 ~{BATDRV} "Battery power source select output", 24 ~{ACDRV} "AC or adapter power source selection output"

## BQ24702PWR
designator U?
Multi-Chemistry Battery Charge Controller and System Power Selector, 7 V, -40 to 125 degC, 24-pin TSSOP (PW), Green (RoHS & no Sb/Br); PartNumber: BQ24702PWR; Manufacturer: Texas Instruments; Lead Acid: Y; Over Voltage Protection: N; SubFamily: Battery Charge Management; Vin(Min)(V): 7; DatasheetVersion: SLUS553E; PackageVersion: revG, Feb-2011; PackageReference: PW24; PackageDescription: 24-Pin Thin Small Outline Package 0.65 mm Pitch; Supplier 1: Digi-Key; Supplier Part Number 1: 296-20825-2-ND; Supplier Part Number 3: 296-20825-6-ND; Eco-Plan: Green (RoHS & no Sb/Br); Li-Ion: Y; Li-Polymer: Y; NiCd: Y; NiMH: Y; Mounting Technology: Surface Mount; Code_JEDEC: MO-153; ComponentLink1Description: Datasheet; ComponentLink1URL: http://www.ti.com/general/docs/lit/getliterature.tsp?genericPartNumber=BQ24702&fileType=pdf
footprint PW24_N (TSOP, 24-Leads, Body 7.8x4.4mm, Pitch 0.65mm, IPC Medium Density)
footprint PW24_L (TSOP, 24-Leads, Body 7.8x4.4mm, Pitch 0.65mm, IPC High Density)
footprint PW24_M (TSOP, 24-Leads, Body 7.8x4.4mm, Pitch 0.65mm, IPC Low Density)
pins: 1 ACDET (in) "AC or adapter power detection", 2 ACPRES (oc) "AC power indicator", 3 ACSEL (in) "AC adapter power select", 4 BATDEP (in) "Depleted battery level", 5 SRSET (in) "Battery charge current programming voltage", 6 ACSET (in) "Adapter current programming voltage", 7 VREF (out) "Precision 5-V reference", 8 ENABLE (in) "Charge enable", 9 BATSET (in) "External override to an internal precision reference", 10 COMP (io) "Inverting input to the PWM comparator", 11 ACN (in) "Negative differential input", 12 ACP (in) "Positive differential input", 13 BATP (in) "Battery charge regulation voltage measurement input to the battery-voltage gm amplifier", 14 IBAT (out) "Battery current differential amplifier output", 15 SRN (in) "Negative differential battery current sense amplifier input", 16 SRP (in) "Positive differential battery current sense amplifier input", 17 GND (power) "Supply return and ground reference", 18 VS (power) "System (load) voltage input pin", 19 ALARM (oc) "Alarm output", 20 VHSP (power) "Voltage source to drive gates of the external MOSFETs", 21 ~{PWM} "Gate drive output", 22 VCC (power) "Operational supply voltage", 23 ~{BATDRV} "Battery power source select output", 24 ~{ACDRV} "AC or adapter power source selection output"

## BQ24702PWRG4
designator U?
Multi-Chemistry Battery Charge Controller and System Power Selector, 7 V, -40 to 125 degC, 24-pin TSSOP (PW), Green (RoHS & no Sb/Br); PartNumber: BQ24702PWRG4; Manufacturer: Texas Instruments; Lead Acid: Y; Over Voltage Protection: N; SubFamily: Battery Charge Management; Vin(Min)(V): 7; DatasheetVersion: SLUS553E; PackageVersion: revG, Feb-2011; PackageReference: PW24; PackageDescription: 24-Pin Thin Small Outline Package 0.65 mm Pitch; Supplier 1: Digi-Key; Supplier Part Number 1: BQ24702PWRG4-ND; Supplier Part Number 3: 595-BQ24702PWRG4; Eco-Plan: Green (RoHS & no Sb/Br); Li-Ion: Y; Li-Polymer: Y; NiCd: Y; NiMH: Y; Mounting Technology: Surface Mount; Code_JEDEC: MO-153; ComponentLink1Description: Datasheet; ComponentLink1URL: http://www.ti.com/general/docs/lit/getliterature.tsp?genericPartNumber=BQ24702&fileType=pdf
footprint PW24_N (TSOP, 24-Leads, Body 7.8x4.4mm, Pitch 0.65mm, IPC Medium Density)
footprint PW24_L (TSOP, 24-Leads, Body 7.8x4.4mm, Pitch 0.65mm, IPC High Density)
footprint PW24_M (TSOP, 24-Leads, Body 7.8x4.4mm, Pitch 0.65mm, IPC Low Density)
pins: 1 ACDET (in) "AC or adapter power detection", 2 ACPRES (oc) "AC power indicator", 3 ACSEL (in) "AC adapter power select", 4 BATDEP (in) "Depleted battery level", 5 SRSET (in) "Battery charge current programming voltage", 6 ACSET (in) "Adapter current programming voltage", 7 VREF (out) "Precision 5-V reference", 8 ENABLE (in) "Charge enable", 9 BATSET (in) "External override to an internal precision reference", 10 COMP (io) "Inverting input to the PWM comparator", 11 ACN (in) "Negative differential input", 12 ACP (in) "Positive differential input", 13 BATP (in) "Battery charge regulation voltage measurement input to the battery-voltage gm amplifier", 14 IBAT (out) "Battery current differential amplifier output", 15 SRN (in) "Negative differential battery current sense amplifier input", 16 SRP (in) "Positive differential battery current sense amplifier input", 17 GND (power) "Supply return and ground reference", 18 VS (power) "System (load) voltage input pin", 19 ALARM (oc) "Alarm output", 20 VHSP (power) "Voltage source to drive gates of the external MOSFETs", 21 ~{PWM} "Gate drive output", 22 VCC (power) "Operational supply voltage", 23 ~{BATDRV} "Battery power source select output", 24 ~{ACDRV} "AC or adapter power source selection output"

## BQ24703PW
designator U?
Multi-Chemistry Battery Charge Controller and System Power Selector, 7 V, -40 to 125 degC, 24-pin TSSOP (PW), Green (RoHS & no Sb/Br); PartNumber: BQ24703PW; Manufacturer: Texas Instruments; Lead Acid: Y; Over Voltage Protection: N; SubFamily: Battery Charge Management; Vin(Min)(V): 7; DatasheetVersion: SLUS553E; PackageVersion: revG, Feb-2011; PackageReference: PW24; PackageDescription: 24-Pin Thin Small Outline Package 0.65 mm Pitch; Supplier 1: Digi-Key; Supplier Part Number 1: 296-15113-5-ND; Supplier Part Number 3: 73H4157; Eco-Plan: Green (RoHS & no Sb/Br); Li-Ion: Y; Li-Polymer: Y; NiCd: Y; NiMH: Y; Mounting Technology: Surface Mount; Code_JEDEC: MO-153; ComponentLink1Description: Datasheet; ComponentLink1URL: http://www.ti.com/general/docs/lit/getliterature.tsp?genericPartNumber=BQ24703&fileType=pdf
footprint PW24_N (TSOP, 24-Leads, Body 7.8x4.4mm, Pitch 0.65mm, IPC Medium Density)
footprint PW24_L (TSOP, 24-Leads, Body 7.8x4.4mm, Pitch 0.65mm, IPC High Density)
footprint PW24_M (TSOP, 24-Leads, Body 7.8x4.4mm, Pitch 0.65mm, IPC Low Density)
pins: 1 ACDET (in) "AC or adapter power detection", 2 ACPRES (oc) "AC power indicator", 3 ACSEL (in) "AC adapter power select", 4 BATDEP (in) "Depleted battery level", 5 SRSET (in) "Battery charge current programming voltage", 6 ACSET (in) "Adapter current programming voltage", 7 VREF (out) "Precision 5-V reference", 8 ENABLE (in) "Charge enable", 9 BATSET (in) "External override to an internal precision reference", 10 COMP (io) "Inverting input to the PWM comparator", 11 ACN (in) "Negative differential input", 12 ACP (in) "Positive differential input", 13 BATP (in) "Battery charge regulation voltage measurement input to the battery-voltage gm amplifier", 14 IBAT (out) "Battery current differential amplifier output", 15 SRN (in) "Negative differential battery current sense amplifier input", 16 SRP (in) "Positive differential battery current sense amplifier input", 17 GND (power) "Supply return and ground reference", 18 VS (power) "System (load) voltage input pin", 19 ALARM (oc) "Alarm output", 20 VHSP (power) "Voltage source to drive gates of the external MOSFETs", 21 ~{PWM} "Gate drive output", 22 VCC (power) "Operational supply voltage", 23 ~{BATDRV} (out) "Battery power source select output", 24 ~{ACDRV} (out) "AC or adapter power source selection output"